# EAGLE library part PN7221EV (library PN7221EV)
RFID Reader/Transponder IC 13.56MHz FeliCa, ISO 14443A, ISO 14443B, ISO 15693, Mifare, NFC I2C, SPI, USB 2.4V ~ 5.5V 64-VFBGA Source: Datasheet <https://www.nxp.com/docs/en/data-sheet/PN7220.pdf>
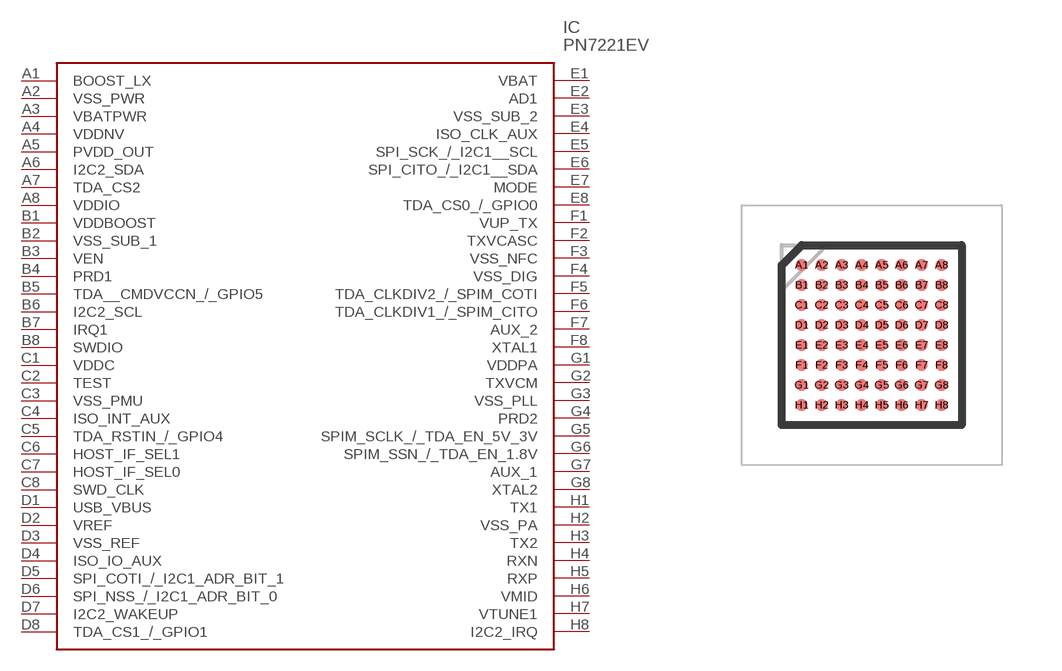
[diagram p0: symbol with the pads of BGA64C50P8X8_450X450X90; footprint BGA64C50P8X8_450X450X90]

Designator prefix IC

## PN7221EV (Description: RFID Reader/Transponder IC 13.56MHz FeliCa, ISO 14443A, ISO 14443B, ISO 15693, Mifare, NFC I2C, SPI, USB 2.4V ~ 5.5V 64-VFBGA; Height: 0.9mm; Manufacturer_Name: NXP; Manufacturer_Part_Number: PN7221EV)  [BGA64C50P8X8_450X450X90]
A1  BOOST_LX
A2  VSS_PWR
A3  VBATPWR
A4  VDDNV
A5  PVDD_OUT
A6  I2C2_SDA
A7  TDA_CS2
A8  VDDIO
B1  VDDBOOST
B2  VSS_SUB_1
B3  VEN
B4  PRD1
B5  TDA__CMDVCCN_/_GPIO5
B6  I2C2_SCL
B7  IRQ1
B8  SWDIO
C1  VDDC
C2  TEST
C3  VSS_PMU
C4  ISO_INT_AUX
C5  TDA_RSTIN_/_GPIO4
C6  HOST_IF_SEL1
C7  HOST_IF_SEL0
C8  SWD_CLK
D1  USB_VBUS
D2  VREF
D3  VSS_REF
D4  ISO_IO_AUX
D5  SPI_COTI_/_I2C1_ADR_BIT_1
D6  SPI_NSS_/_I2C1_ADR_BIT_0
D7  I2C2_WAKEUP
D8  TDA_CS1_/_GPIO1
E1  VBAT
E2  AD1
E3  VSS_SUB_2
E4  ISO_CLK_AUX
E5  SPI_SCK_/_I2C1__SCL
E6  SPI_CITO_/_I2C1__SDA
E7  MODE
E8  TDA_CS0_/_GPIO0
F1  VUP_TX
F2  TXVCASC
F3  VSS_NFC
F4  VSS_DIG
F5  TDA_CLKDIV2_/_SPIM_COTI
F6  TDA_CLKDIV1_/_SPIM_CITO
F7  AUX_2
F8  XTAL1
G1  VDDPA
G2  TXVCM
G3  VSS_PLL
G4  PRD2
G5  SPIM_SCLK_/_TDA_EN_5V_3V
G6  SPIM_SSN_/_TDA_EN_1.8V
G7  AUX_1
G8  XTAL2
H1  TX1
H2  VSS_PA
H3  TX2
H4  RXN
H5  RXP
H6  VMID
H7  VTUNE1
H8  I2C2_IRQ

## Footprint BGA64C50P8X8_450X450X90 (pad centres in mm)
VFBGA64
smd 0.29 x 0.29: A1 -1.75,1.75; A2 -1.25,1.75; A3 -0.75,1.75; A4 -0.25,1.75; A5 0.25,1.75; A6 0.75,1.75; A7 1.25,1.75; A8 1.75,1.75; B1 -1.75,1.25; B2 -1.25,1.25; B3 -0.75,1.25; B4 -0.25,1.25; B5 0.25,1.25; B6 0.75,1.25; B7 1.25,1.25; B8 1.75,1.25; C1 -1.75,0.75; C2 -1.25,0.75; C3 -0.75,0.75; C4 -0.25,0.75; C5 0.25,0.75; C6 0.75,0.75; C7 1.25,0.75; C8 1.75,0.75; D1 -1.75,0.25; D2 -1.25,0.25; D3 -0.75,0.25; D4 -0.25,0.25; D5 0.25,0.25; D6 0.75,0.25; D7 1.25,0.25; D8 1.75,0.25; E1 -1.75,-0.25; E2 -1.25,-0.25; E3 -0.75,-0.25; E4 -0.25,-0.25; E5 0.25,-0.25; E6 0.75,-0.25; E7 1.25,-0.25; E8 1.75,-0.25; F1 -1.75,-0.75; F2 -1.25,-0.75; F3 -0.75,-0.75; F4 -0.25,-0.75; F5 0.25,-0.75; F6 0.75,-0.75; F7 1.25,-0.75; F8 1.75,-0.75; G1 -1.75,-1.25; G2 -1.25,-1.25; G3 -0.75,-1.25; G4 -0.25,-1.25; G5 0.25,-1.25; G6 0.75,-1.25; G7 1.25,-1.25; G8 1.75,-1.25; H1 -1.75,-1.75; H2 -1.25,-1.75; H3 -0.75,-1.75; H4 -0.25,-1.75; H5 0.25,-1.75; H6 0.75,-1.75; H7 1.25,-1.75; H8 1.75,-1.75